# EAGLE library part 0532610671 (library Spici_ControlBoard)
0532610671 Molex 6POS 1.25MM SMD Datasheet <https://www.molex.com/pdm_docs/sd/532610671_sd.pdf>
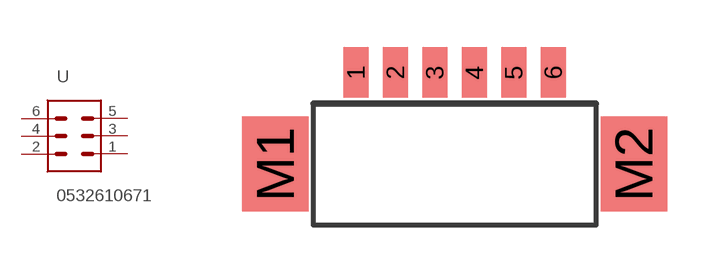
[diagram p5: symbol with the pads of 0532610671; footprint 0532610671]

Designator prefix -

## 0532610671 (DKPN: WM7624TR-ND)  [0532610671]
1  1  pas
2  2  pas
3  3  pas
4  4  pas
5  5  pas
6  6  pas

## Footprint 0532610671 (pad centres in mm)
https://www.molex.com/pdm_docs/sd/532610671_sd.pdf
smd 0.8 x 1.6: 1 -3.125,2.4; 2 -1.875,2.4; 3 -0.625,2.4; 4 0.625,2.4; 5 1.875,2.4; 6 3.125,2.4
smd 2.1 x 3: M1 -5.675,-0.5; M2 5.675,-0.5